# Altium footprint library PCB-QFP-WCH-QFN36-6x6.PcbLib: 1 footprints
Each footprint in its own frame and in the unit in brackets; x right, y up, seen from the top. Pads: shape width x height; smd on the part's side, far side on the other; paste and mask are expansions set on the pad; w line width, h text height; cw(c..) or ccw(c..) is an arc to the next point about the centre after c.
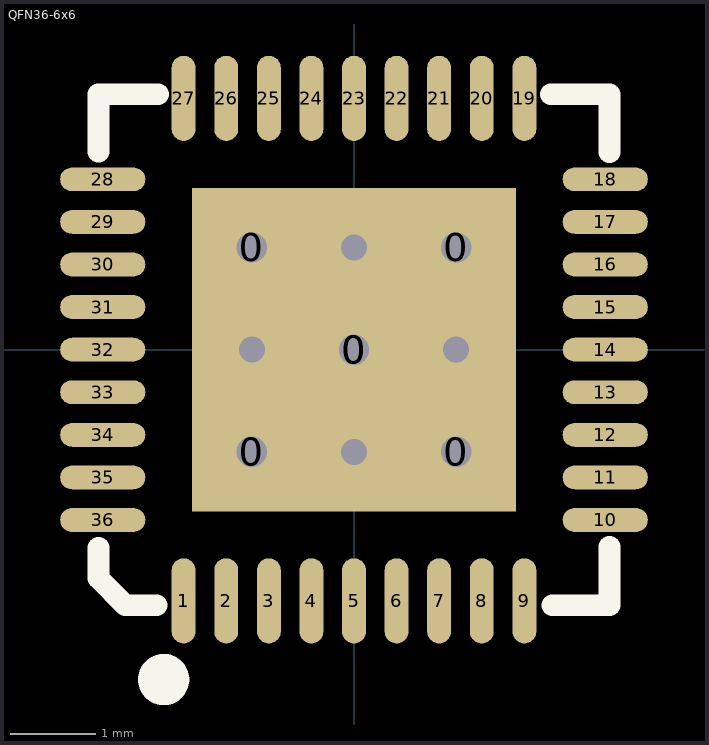
[diagram p0: the footprint, top view; thin cyan lines are the x and y axes]

## QFN36-6x6 [mm]
pads (42):
  round 0.711 hole 0.356: 0(-1.2,-1.2) 0(-1.2,1.2) 0(0,0) 0(1.2,-1.2) 0(1.2,1.2)
  rect 3.8x3.8 smd: 0(0,0)
  oval 0.28x1 smd mask+0.051: 1(-2,-2.95) 2(-1.5,-2.95) 3(-1,-2.95) 4(-0.5,-2.95) 5(0,-2.95) 6(0.5,-2.95) 7(1,-2.95) 8(1.5,-2.95) 9(2,-2.95) 19(2,2.95) 20(1.5,2.95) 21(1,2.95) 22(0.5,2.95) 23(0,2.95) 24(-0.5,2.95) 25(-1,2.95) 26(-1.5,2.95) 27(-2,2.95)
  oval 1x0.28 smd mask+0.051: 10(2.95,-2) 11(2.95,-1.5) 12(2.95,-1) 13(2.95,-0.5) 14(2.95,0) 15(2.95,0.5) 16(2.95,1) 17(2.95,1.5) 18(2.95,2) 28(-2.95,2) 29(-2.95,1.5) 30(-2.95,1) 31(-2.95,0.5) 32(-2.95,0) 33(-2.95,-0.5) 34(-2.95,-1) 35(-2.95,-1.5) 36(-2.95,-2)
via 1.2,0 diameter 0.61 hole 0.305
via 0,-1.2 diameter 0.61 hole 0.305
via -1.2,0 diameter 0.61 hole 0.305
via 0,1.2 diameter 0.61 hole 0.305
Top Overlay:
  circle w0.305: c-2.235,-3.873 r0.148
  lines w0.254: -3,-2.328 -3,-2.684 -2.684,-3 -2.316,-3 ; -3,2.324 -3,3 -2.297,3 ; 2.311,3 3,3 3,2.317 ; 2.33,-3 3,-3 3,-2.315